# Altium footprint library ICE40HX1K-TQ144.PcbLib: 3 footprints
Each footprint in its own frame and in the unit in brackets; x right, y up, seen from the top. Pads: shape width x height; smd on the part's side, far side on the other; paste and mask are expansions set on the pad; w line width, h text height; cw(c..) or ccw(c..) is an arc to the next point about the centre after c.
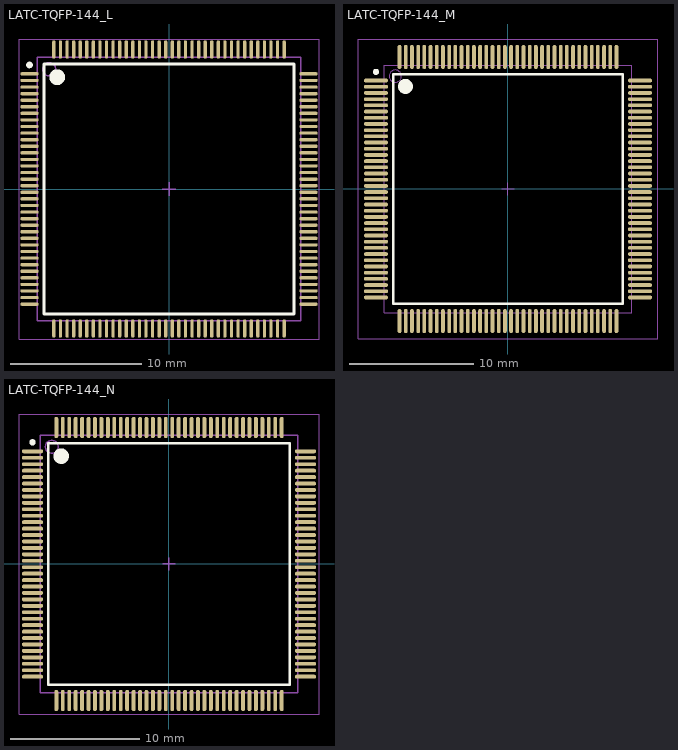
[diagram p0: the footprints below, top view; thin cyan lines are the x and y axes]

## LATC-TQFP-144_L [mm] "QFP, 144-Leads, Body 20x20mm, Pitch 0.5mm, IPC High Density"
height 1.6
pads (144):
  oval 1.4x0.25 smd: 1(-10.6,8.75) 2(-10.6,8.25) 3(-10.6,7.75) 4(-10.6,7.25) 5(-10.6,6.75) 6(-10.6,6.25) 7(-10.6,5.75) 8(-10.6,5.25) 9(-10.6,4.75) 10(-10.6,4.25) 11(-10.6,3.75) 12(-10.6,3.25) 13(-10.6,2.75) 14(-10.6,2.25) 15(-10.6,1.75) 16(-10.6,1.25) 17(-10.6,0.75) 18(-10.6,0.25) 19(-10.6,-0.25) 20(-10.6,-0.75) 21(-10.6,-1.25) 22(-10.6,-1.75) 23(-10.6,-2.25) 24(-10.6,-2.75) 25(-10.6,-3.25) 26(-10.6,-3.75) 27(-10.6,-4.25) 28(-10.6,-4.75) 29(-10.6,-5.25) 30(-10.6,-5.75) 31(-10.6,-6.25) 32(-10.6,-6.75) 33(-10.6,-7.25) 34(-10.6,-7.75) 35(-10.6,-8.25) 36(-10.6,-8.75) 73(10.6,-8.75) 74(10.6,-8.25) 75(10.6,-7.75) 76(10.6,-7.25) 77(10.6,-6.75) 78(10.6,-6.25) 79(10.6,-5.75) 80(10.6,-5.25) 81(10.6,-4.75) 82(10.6,-4.25) 83(10.6,-3.75) 84(10.6,-3.25) 85(10.6,-2.75) 86(10.6,-2.25) 87(10.6,-1.75) 88(10.6,-1.25) 89(10.6,-0.75) 90(10.6,-0.25) 91(10.6,0.25) 92(10.6,0.75) 93(10.6,1.25) 94(10.6,1.75) 95(10.6,2.25) 96(10.6,2.75) 97(10.6,3.25) 98(10.6,3.75) 99(10.6,4.25) 100(10.6,4.75) 101(10.6,5.25) 102(10.6,5.75) 103(10.6,6.25) 104(10.6,6.75) 105(10.6,7.25) 106(10.6,7.75) 107(10.6,8.25) 108(10.6,8.75)
  oval 0.25x1.4 smd: 37(-8.75,-10.6) 38(-8.25,-10.6) 39(-7.75,-10.6) 40(-7.25,-10.6) 41(-6.75,-10.6) 42(-6.25,-10.6) 43(-5.75,-10.6) 44(-5.25,-10.6) 45(-4.75,-10.6) 46(-4.25,-10.6) 47(-3.75,-10.6) 48(-3.25,-10.6) 49(-2.75,-10.6) 50(-2.25,-10.6) 51(-1.75,-10.6) 52(-1.25,-10.6) 53(-0.75,-10.6) 54(-0.25,-10.6) 55(0.25,-10.6) 56(0.75,-10.6) 57(1.25,-10.6) 58(1.75,-10.6) 59(2.25,-10.6) 60(2.75,-10.6) 61(3.25,-10.6) 62(3.75,-10.6) 63(4.25,-10.6) 64(4.75,-10.6) 65(5.25,-10.6) 66(5.75,-10.6) 67(6.25,-10.6) 68(6.75,-10.6) 69(7.25,-10.6) 70(7.75,-10.6) 71(8.25,-10.6) 72(8.75,-10.6) 109(8.75,10.6) 110(8.25,10.6) 111(7.75,10.6) 112(7.25,10.6) 113(6.75,10.6) 114(6.25,10.6) 115(5.75,10.6) 116(5.25,10.6) 117(4.75,10.6) 118(4.25,10.6) 119(3.75,10.6) 120(3.25,10.6) 121(2.75,10.6) 122(2.25,10.6) 123(1.75,10.6) 124(1.25,10.6) 125(0.75,10.6) 126(0.25,10.6) 127(-0.25,10.6) 128(-0.75,10.6) 129(-1.25,10.6) 130(-1.75,10.6) 131(-2.25,10.6) 132(-2.75,10.6) 133(-3.25,10.6) 134(-3.75,10.6) 135(-4.25,10.6) 136(-4.75,10.6) 137(-5.25,10.6) 138(-5.75,10.6) 139(-6.25,10.6) 140(-6.75,10.6) 141(-7.25,10.6) 142(-7.75,10.6) 143(-8.25,10.6) 144(-8.75,10.6)
Top Overlay:
  circle w0.25: c-10.6,9.425 r0.125
  circle w0.6: c-8.5,8.5 r0.3
  lines w0.2: -9.5,-9.5 -9.5,9.5 9.5,9.5 9.5,-9.5 -9.5,-9.5
Mechanical 13:
  circle w0.1: c-9.1,9.1 r0.5
  lines w0.1: -10,-10 -10,10 10,10 10,-10 -10,-10
Mechanical 15:
  lines w0.05: -11.4,-11.4 -11.4,11.4 11.4,11.4 11.4,-11.4 -11.4,-11.4
  lines w0.1: -0.5,0 0.5,0 ; 0,-0.5 0,0.5
3D body: height 1.6, standoff 0.05, extent -10,-10 10,10

## LATC-TQFP-144_M [mm] "QFP, 144-Leads, Body 20x20mm, Pitch 0.5mm, IPC Low Density"
height 1.6
pads (144):
  oval 1.95x0.3 smd: 1(-10.65,8.75) 2(-10.65,8.25) 3(-10.65,7.75) 4(-10.65,7.25) 5(-10.65,6.75) 6(-10.65,6.25) 7(-10.65,5.75) 8(-10.65,5.25) 9(-10.65,4.75) 10(-10.65,4.25) 11(-10.65,3.75) 12(-10.65,3.25) 13(-10.65,2.75) 14(-10.65,2.25) 15(-10.65,1.75) 16(-10.65,1.25) 17(-10.65,0.75) 18(-10.65,0.25) 19(-10.65,-0.25) 20(-10.65,-0.75) 21(-10.65,-1.25) 22(-10.65,-1.75) 23(-10.65,-2.25) 24(-10.65,-2.75) 25(-10.65,-3.25) 26(-10.65,-3.75) 27(-10.65,-4.25) 28(-10.65,-4.75) 29(-10.65,-5.25) 30(-10.65,-5.75) 31(-10.65,-6.25) 32(-10.65,-6.75) 33(-10.65,-7.25) 34(-10.65,-7.75) 35(-10.65,-8.25) 36(-10.65,-8.75) 73(10.65,-8.75) 74(10.65,-8.25) 75(10.65,-7.75) 76(10.65,-7.25) 77(10.65,-6.75) 78(10.65,-6.25) 79(10.65,-5.75) 80(10.65,-5.25) 81(10.65,-4.75) 82(10.65,-4.25) 83(10.65,-3.75) 84(10.65,-3.25) 85(10.65,-2.75) 86(10.65,-2.25) 87(10.65,-1.75) 88(10.65,-1.25) 89(10.65,-0.75) 90(10.65,-0.25) 91(10.65,0.25) 92(10.65,0.75) 93(10.65,1.25) 94(10.65,1.75) 95(10.65,2.25) 96(10.65,2.75) 97(10.65,3.25) 98(10.65,3.75) 99(10.65,4.25) 100(10.65,4.75) 101(10.65,5.25) 102(10.65,5.75) 103(10.65,6.25) 104(10.65,6.75) 105(10.65,7.25) 106(10.65,7.75) 107(10.65,8.25) 108(10.65,8.75)
  oval 0.3x1.95 smd: 37(-8.75,-10.65) 38(-8.25,-10.65) 39(-7.75,-10.65) 40(-7.25,-10.65) 41(-6.75,-10.65) 42(-6.25,-10.65) 43(-5.75,-10.65) 44(-5.25,-10.65) 45(-4.75,-10.65) 46(-4.25,-10.65) 47(-3.75,-10.65) 48(-3.25,-10.65) 49(-2.75,-10.65) 50(-2.25,-10.65) 51(-1.75,-10.65) 52(-1.25,-10.65) 53(-0.75,-10.65) 54(-0.25,-10.65) 55(0.25,-10.65) 56(0.75,-10.65) 57(1.25,-10.65) 58(1.75,-10.65) 59(2.25,-10.65) 60(2.75,-10.65) 61(3.25,-10.65) 62(3.75,-10.65) 63(4.25,-10.65) 64(4.75,-10.65) 65(5.25,-10.65) 66(5.75,-10.65) 67(6.25,-10.65) 68(6.75,-10.65) 69(7.25,-10.65) 70(7.75,-10.65) 71(8.25,-10.65) 72(8.75,-10.65) 109(8.75,10.65) 110(8.25,10.65) 111(7.75,10.65) 112(7.25,10.65) 113(6.75,10.65) 114(6.25,10.65) 115(5.75,10.65) 116(5.25,10.65) 117(4.75,10.65) 118(4.25,10.65) 119(3.75,10.65) 120(3.25,10.65) 121(2.75,10.65) 122(2.25,10.65) 123(1.75,10.65) 124(1.25,10.65) 125(0.75,10.65) 126(0.25,10.65) 127(-0.25,10.65) 128(-0.75,10.65) 129(-1.25,10.65) 130(-1.75,10.65) 131(-2.25,10.65) 132(-2.75,10.65) 133(-3.25,10.65) 134(-3.75,10.65) 135(-4.25,10.65) 136(-4.75,10.65) 137(-5.25,10.65) 138(-5.75,10.65) 139(-6.25,10.65) 140(-6.75,10.65) 141(-7.25,10.65) 142(-7.75,10.65) 143(-8.25,10.65) 144(-8.75,10.65)
Top Overlay:
  circle w0.25: c-10.65,9.45 r0.125
  circle w0.6: c-8.275,8.275 r0.3
  lines w0.2: -9.275,-9.275 -9.275,9.275 9.275,9.275 9.275,-9.275 -9.275,-9.275
Mechanical 13:
  circle w0.1: c-9.1,9.1 r0.5
  lines w0.1: -10,-10 -10,10 10,10 10,-10 -10,-10
Mechanical 15:
  lines w0.05: -12.1,-12.1 -12.1,12.1 12.1,12.1 12.1,-12.1 -12.1,-12.1
  lines w0.1: -0.5,0 0.5,0 ; 0,-0.5 0,0.5
3D body: height 1.6, standoff 0.05, extent -10,-10 10,10

## LATC-TQFP-144_N [mm] "QFP, 144-Leads, Body 20x20mm, Pitch 0.5mm, IPC Medium Density"
height 1.6
pads (144):
  oval 1.65x0.3 smd: 1(-10.6,8.75) 2(-10.6,8.25) 3(-10.6,7.75) 4(-10.6,7.25) 5(-10.6,6.75) 6(-10.6,6.25) 7(-10.6,5.75) 8(-10.6,5.25) 9(-10.6,4.75) 10(-10.6,4.25) 11(-10.6,3.75) 12(-10.6,3.25) 13(-10.6,2.75) 14(-10.6,2.25) 15(-10.6,1.75) 16(-10.6,1.25) 17(-10.6,0.75) 18(-10.6,0.25) 19(-10.6,-0.25) 20(-10.6,-0.75) 21(-10.6,-1.25) 22(-10.6,-1.75) 23(-10.6,-2.25) 24(-10.6,-2.75) 25(-10.6,-3.25) 26(-10.6,-3.75) 27(-10.6,-4.25) 28(-10.6,-4.75) 29(-10.6,-5.25) 30(-10.6,-5.75) 31(-10.6,-6.25) 32(-10.6,-6.75) 33(-10.6,-7.25) 34(-10.6,-7.75) 35(-10.6,-8.25) 36(-10.6,-8.75) 73(10.6,-8.75) 74(10.6,-8.25) 75(10.6,-7.75) 76(10.6,-7.25) 77(10.6,-6.75) 78(10.6,-6.25) 79(10.6,-5.75) 80(10.6,-5.25) 81(10.6,-4.75) 82(10.6,-4.25) 83(10.6,-3.75) 84(10.6,-3.25) 85(10.6,-2.75) 86(10.6,-2.25) 87(10.6,-1.75) 88(10.6,-1.25) 89(10.6,-0.75) 90(10.6,-0.25) 91(10.6,0.25) 92(10.6,0.75) 93(10.6,1.25) 94(10.6,1.75) 95(10.6,2.25) 96(10.6,2.75) 97(10.6,3.25) 98(10.6,3.75) 99(10.6,4.25) 100(10.6,4.75) 101(10.6,5.25) 102(10.6,5.75) 103(10.6,6.25) 104(10.6,6.75) 105(10.6,7.25) 106(10.6,7.75) 107(10.6,8.25) 108(10.6,8.75)
  oval 0.3x1.65 smd: 37(-8.75,-10.6) 38(-8.25,-10.6) 39(-7.75,-10.6) 40(-7.25,-10.6) 41(-6.75,-10.6) 42(-6.25,-10.6) 43(-5.75,-10.6) 44(-5.25,-10.6) 45(-4.75,-10.6) 46(-4.25,-10.6) 47(-3.75,-10.6) 48(-3.25,-10.6) 49(-2.75,-10.6) 50(-2.25,-10.6) 51(-1.75,-10.6) 52(-1.25,-10.6) 53(-0.75,-10.6) 54(-0.25,-10.6) 55(0.25,-10.6) 56(0.75,-10.6) 57(1.25,-10.6) 58(1.75,-10.6) 59(2.25,-10.6) 60(2.75,-10.6) 61(3.25,-10.6) 62(3.75,-10.6) 63(4.25,-10.6) 64(4.75,-10.6) 65(5.25,-10.6) 66(5.75,-10.6) 67(6.25,-10.6) 68(6.75,-10.6) 69(7.25,-10.6) 70(7.75,-10.6) 71(8.25,-10.6) 72(8.75,-10.6) 109(8.75,10.6) 110(8.25,10.6) 111(7.75,10.6) 112(7.25,10.6) 113(6.75,10.6) 114(6.25,10.6) 115(5.75,10.6) 116(5.25,10.6) 117(4.75,10.6) 118(4.25,10.6) 119(3.75,10.6) 120(3.25,10.6) 121(2.75,10.6) 122(2.25,10.6) 123(1.75,10.6) 124(1.25,10.6) 125(0.75,10.6) 126(0.25,10.6) 127(-0.25,10.6) 128(-0.75,10.6) 129(-1.25,10.6) 130(-1.75,10.6) 131(-2.25,10.6) 132(-2.75,10.6) 133(-3.25,10.6) 134(-3.75,10.6) 135(-4.25,10.6) 136(-4.75,10.6) 137(-5.25,10.6) 138(-5.75,10.6) 139(-6.25,10.6) 140(-6.75,10.6) 141(-7.25,10.6) 142(-7.75,10.6) 143(-8.25,10.6) 144(-8.75,10.6)
Top Overlay:
  circle w0.25: c-10.6,9.45 r0.125
  circle w0.6: c-8.375,8.375 r0.3
  lines w0.2: -9.375,-9.375 -9.375,9.375 9.375,9.375 9.375,-9.375 -9.375,-9.375
Mechanical 13:
  circle w0.1: c-9.1,9.1 r0.5
  lines w0.1: -10,-10 -10,10 10,10 10,-10 -10,-10
Mechanical 15:
  lines w0.05: -11.65,-11.65 -11.65,11.65 11.65,11.65 11.65,-11.65 -11.65,-11.65
  lines w0.1: -0.5,0 0.5,0 ; 0,-0.5 0,0.5
3D body: height 1.6, standoff 0.05, extent -10,-10 10,10